# Altium footprint library LKAS_EPS.PcbLib: 16 footprints
Each footprint in its own frame and in the unit in brackets; x right, y up, seen from the top. Pads: shape width x height; smd on the part's side, far side on the other; paste and mask are expansions set on the pad; w line width, h text height; cw(c..) or ccw(c..) is an arc to the next point about the centre after c.
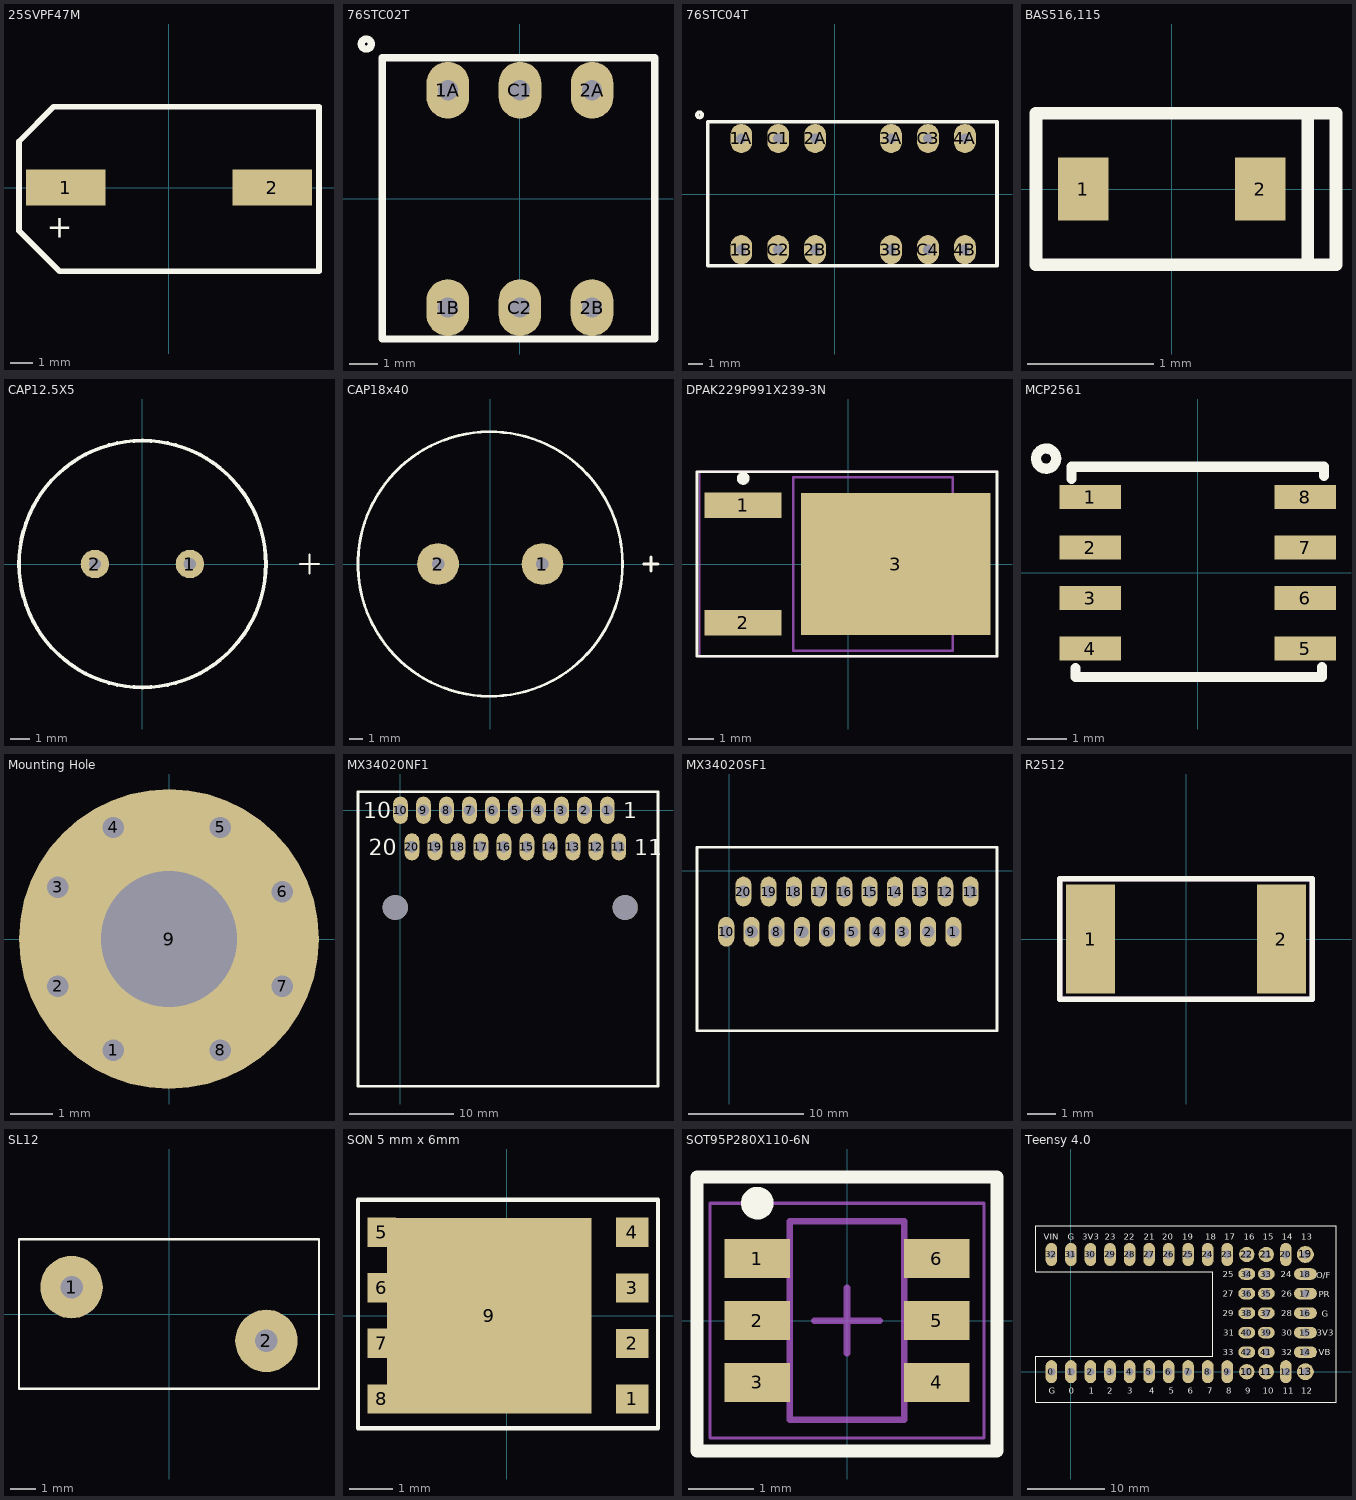
[diagram p0: the footprints below, top view; thin cyan lines are the x and y axes]

## 25SVPF47M [mm] "C6 LAND PATTERN"
pads (2):
  rect 3.5x1.6 smd: 1(-4.55,0) 2(4.55,0)
Top Overlay:
  lines w0.254: -6.604,-1.905 -6.604,2.032 -5.08,3.556 -3.683,3.556 3.683,3.556 6.604,3.556 6.604,-3.683 3.937,-3.683 -3.429,-3.683 -4.826,-3.683 -6.604,-1.905
  text "+" at -5.388,-2.213 h1
3D body "25SVPF47M.stp": height 6, standoff 0.1, extent -3.65,-3.3 3.65,3.3

## 76STC02T [mm] "Switch Rocker Arm"
pads (6):
  oval 1.5x2 hole 0.71: 1A(-2.538,3.827) 1B(-2.542,-3.827) 2A(2.542,3.827) 2B(2.538,-3.827) C1(0.002,3.827) C2(-0.002,-3.827)
Top Overlay:
  circle w0.254: c-5.412,5.451 r0.178
  lines w0.254: -4.846,-4.934 4.748,-4.934 4.748,4.966 -4.846,4.966 -4.846,-4.934

## 76STC04T [mm] "Switch Rocker Arm"
pads (12):
  oval 1.5x2 hole 0.71: 1A(-6.423,3.844) 1B(-6.426,-3.81) 2A(-1.343,3.844) 2B(-1.346,-3.81) 3A(3.883,3.844) 3B(3.88,-3.81) 4A(8.963,3.844) 4B(8.96,-3.81) C1(-3.883,3.844) C2(-3.886,-3.81) C3(6.423,3.844) C4(6.42,-3.81)
Top Overlay:
  circle w0.254: c-9.297,5.468 r0.178
  lines w0.254: -8.731,-4.917 -8.731,4.983 1.219,4.983 11.169,4.983 11.169,-4.917 -8.731,-4.917

## BAS516,115 [mm]
pads (2):
  rect 0.4x0.5 smd: 1(-0.7,0) 2(0.7,0)
Top Overlay:
  lines w0.1: -1.075,-0.6 1.075,-0.6 ; -1.075,-0.6 -1.075,0.6 1.075,0.6 ; -1.075,-0.6 1.075,-0.6 ; 1.075,-0.6 1.3,-0.6 1.3,0.6 1.075,0.6 ; 1.075,-0.6 1.075,0.6
3D body "SOD-523F.step": height 0.7, standoff 0, extent -0.8,-0.399 0.8,0.399

## CAP12.5X5 [mm]
pads (2):
  round 1.5 hole 0.65: 1(2.5,0) 2(-2.5,0)
Top Overlay:
  circle w0.2: c0,0 r6.5
  lines w0.1: 8.282,0 9.298,0 ; 8.79,-0.508 8.79,0.508
3D body: height 20, standoff 0, extent -6.25,-6.247 6.25,6.247

## CAP18x40 [mm]
pads (2):
  round 3 hole 0.9: 1(3.75,0) 2(-3.75,0)
Top Overlay:
  circle w0.2: c0,0 r9.5
  lines w0.2: 11.032,0 12.048,0 ; 11.54,-0.508 11.54,0.508
3D body: height 20, standoff 0, extent 0.212,-3.861 0.212,-3.861
3D body "CAP18x40.step": height 41.36, standoff -2.78, extent -9.14,-9.138 9.14,9.138

## DPAK229P991X239-3N [mm] "D-PAK, 3-Pads, Body 6.21x6.73mm (max), IPC Medium Density"
height 2.39
pads (3):
  rect 3x1 smd: 1(-4.1,2.29) 2(-4.1,-2.29)
  rect 7.4x5.55 smd: 3(1.85,0)
Top Overlay:
  circle w0.25: c-4.1,3.34 r0.125
  lines w0.1: -5.9,-3.6 -5.9,3.6 5.8,3.6 5.8,-3.6 -5.9,-3.6
Mechanical 15:
  lines w0.05: -5.8,-3.625 5.8,-3.625 5.8,3.625 -5.8,3.625 -5.8,-3.625
  lines w0.1: -0.5,0 0.5,0 ; 0,-0.5 0,0.5
Top Assembly:
  lines w0.1: -2.15,-3.375 4.07,-3.375 4.07,3.375 -2.15,3.375 -2.15,-3.375
3D body "DPAK229P991X239-3N.step": height 2.52, standoff 0, extent -4.39,-3.375 5.515,3.375

## MCP2561 [mm] "SOIC 8 SN type"
pads (8):
  rect 1.55x0.6 smd: 1(-2.7,1.905) 2(-2.7,0.635) 3(-2.7,-0.635) 4(-2.7,-1.905) 5(2.7,-1.905) 6(2.7,-0.635) 7(2.7,0.635) 8(2.7,1.905)
Top Overlay:
  circle w0.254: c-3.81,2.87 r0.254
  lines w0.254: -3.175,2.362 -3.175,2.667 3.175,2.667 3.175,2.438 ; -3.073,-2.388 -3.073,-2.616 3.124,-2.616 3.124,-2.362
3D body "User Library-SOIC-8-1.step": height 1.75, standoff 0, extent -3,-2.45 3,2.45

## Mounting Hole [mm]
pads (9):
  round 0.5 hole 0.5: 1(-1.3,-2.6) 2(-2.6,-1.1) 3(-2.6,1.204) 4(-1.3,2.602) 5(1.2,2.602) 6(2.646,1.1) 7(2.646,-1.1) 8(1.2,-2.6)
  round 7 hole 3.175: 9(0,0)
Top Layer:
  circle w0.254: c0,0 r2.865

## MX34020NF1 [mm] "Receptical with male pins"
pads (22):
  oval 1.4x2.6 hole 1.1: 1(19.8,0) 2(17.6,0) 3(15.4,0) 4(13.2,0) 5(11,0) 6(8.8,0) 7(6.6,0) 8(4.4,0) 9(2.2,0) 10(0,0) 11(20.9,-3.5) 12(18.7,-3.5) 13(16.5,-3.5) 14(14.3,-3.5) 15(12.1,-3.5) 16(9.9,-3.5) 17(7.7,-3.5) 18(5.5,-3.5) 19(3.3,-3.5) 20(1.1,-3.5)
  round 2.4 hole 2.4 unplated: ""(-0.5,-9.3) ""(21.5,-9.3)
Top Overlay:
  lines w0.254: -4.064,-26.416 -4.064,1.778 24.638,1.778 24.638,-26.416 -4.064,-26.416
  text "10" at -3.556,-0.762 h1.52
  text "20" at -3.048,-4.318 h1.52
  text "11" at 22.352,-4.318 h1.52
  text "1" at 21.336,-0.762 h1.52
3D body "K3D-MX34020NF1-V3_JAE_Proprietary.STEP": height 16, standoff -3.2, extent -3.556,-26.214 24.344,0.306

## MX34020SF1 [mm] "Plug without pins"
pads (20):
  oval 1.4x2.6 hole 1.1: 1(19.558,-5.334) 2(17.358,-5.334) 3(15.158,-5.334) 4(12.958,-5.334) 5(10.758,-5.334) 6(8.558,-5.334) 7(6.358,-5.334) 8(4.158,-5.334) 9(1.958,-5.334) 10(-0.242,-5.334) 11(21.058,-1.834) 12(18.858,-1.834) 13(16.658,-1.834) 14(14.458,-1.834) 15(12.258,-1.834) 16(10.058,-1.834) 17(7.858,-1.834) 18(5.658,-1.834) 19(3.458,-1.834) 20(1.258,-1.834)
Top Overlay:
  lines w0.254: -2.794,-13.97 -2.794,2.032 23.368,2.032 23.368,-13.97 -2.794,-13.97
Bottom Overlay:
  text "10" at -4.064,-4.572 h1.52
  text "20" at -3.048,-1.016 h1.52
  text "11" at 22.098,-1.016 h1.52
  text "1" at 21.336,-4.572 h1.52
3D body "K3D-MX34020SF1-V3_JAE_Proprietary.STEP": height 21, standoff -0.3, extent -2.39,-13.746 22.71,1.454

## R2512 [mm]
pads (2):
  rect 1.7x3.8 smd: 1(-3.325,0) 2(3.325,0)
Top Overlay:
  lines w0.2: -4.4,-2.1 4.4,-2.1 4.4,2.1 -4.4,2.1 -4.4,-2.1
Top Assembly:
  lines w0.2: -4.4,-2.1 -4.4,2.1 4.4,2.1 4.4,-2.1 -4.4,-2.1
  text "'.Designator'" at -1.8,-0.35 h1.5
3D body "Resistor 2512.step": height 0.6, standoff 0, extent -3.4,-1.6 3.4,1.5

## SL12 [mm]
pads (2):
  round 2.5 hole 0.9: 1(-3.9,1.075) 2(3.9,-1.075)
Top Overlay:
  lines w0.1: -6,-3 6,-3 6,3 -6,3 -6,-3

## SON 5 mm x 6mm [mm] "NEXTFET"
pads (9):
  rect 0.75x0.675 smd: 1(2.883,-1.918) 2(2.883,-0.639) 3(2.883,0.639) 4(2.883,1.917)
  rect 0.655x0.675 smd: 5(-2.883,1.918) 6(-2.883,0.639) 7(-2.883,-0.639) 8(-2.883,-1.917)
  rect 4.7x4.5 smd: 9(-0.406,0)
Top Overlay:
  lines w0.1: -3.429,-2.591 -2.946,-2.591 3.48,-2.591 3.48,2.667 -3.429,2.667 -3.429,-2.591
3D body "SON8-5x6mm.step": height 1, standoff -0.05, extent -2.901,-2.5 3.099,2.5

## SOT95P280X110-6N [mm] "SOT23, 6-Leads, Body 2.90x2.80mm, Pitch 0.95mm, IPC Medium Density"
height 1.1
pads (6):
  rect 1x0.6 smd: 1(-1.375,0.95) 2(-1.375,0) 3(-1.375,-0.95) 4(1.375,-0.95) 5(1.375,0) 6(1.375,0.95)
Top Overlay:
  circle w0.25: c-1.375,1.8 r0.125
  lines w0.2: -2.3,-2 -2.3,2.2 2.3,2.2 2.3,-2 -2.3,-2
Mechanical 15:
  lines w0.05: -2.1,-1.8 2.1,-1.8 2.1,1.8 -2.1,1.8 -2.1,-1.8
  lines w0.1: -0.5,0 0.5,0 ; 0,-0.5 0,0.5
Top Assembly:
  lines w0.1: -0.875,-1.525 0.875,-1.525 0.875,1.525 -0.875,1.525 -0.875,-1.525
3D body "SOT95P280X110-6N.step": height 1.1, standoff 0.01, extent -1.493,-1.525 1.493,1.525

## Teensy 4.0 [mm]
pads (43):
  oval 1.5x3 hole 1.02: 0(-2.54,0) 1(0,0) 2(2.54,0) 3(5.08,0) 4(7.62,0) 5(10.16,0) 6(12.7,0) 7(15.24,0) 8(17.78,0) 9(20.32,0) 12(27.94,0) 20(27.94,15.24) 23(20.32,15.24) 24(17.78,15.24) 25(15.24,15.24) 26(12.7,15.24) 27(10.16,15.24) 28(7.62,15.24) 29(5.08,15.24) 30(2.54,15.24) 31(0,15.24) 32(-2.54,15.24)
  round 2 hole 1.02: 10(22.86,0) 11(25.4,0) 21(25.4,15.24) 22(22.86,15.24)
  round 2.2 hole 1.02: 13(30.48,0) 19(30.48,15.24)
  oval 3x1.5 hole 1.02: 14(30.48,2.54) 15(30.48,5.08) 16(30.48,7.62) 17(30.48,10.16) 18(30.48,12.7)
  oval 2.2x1.5 hole 1.02: 33(25.4,12.7) 34(22.86,12.7) 35(25.4,10.16) 36(22.86,10.16) 37(25.4,7.62) 38(22.86,7.62) 39(25.4,5.08) 40(22.86,5.08) 41(25.4,2.54) 42(22.86,2.54)
Top Overlay:
  lines w0.1: -4.54,-4 34.46,-4 34.46,19 -4.54,19 -4.54,13 18.46,13 18.46,2 -4.54,2 -4.54,-4
  text "33" at 19.728,2.14 h0.8
  text "32" at 27.348,2.14 h0.8
  text "31" at 19.823,4.68 h0.8
  text "30" at 27.348,4.68 h0.8
  text "29" at 19.728,7.22 h0.8
  text "28" at 27.348,7.22 h0.8
  text "27" at 19.728,9.76 h0.8
  text "26" at 27.348,9.76 h0.8
  text "25" at 19.728,12.3 h0.8
  text "24" at 27.31,12.3 h0.8
  text "O/F" at 31.867,12.15 h0.8
  text "PR" at 32.24,9.65 h0.8
  text "G" at 32.617,7.15 h0.8
  text "3V3" at 31.974,4.65 h0.8
  text "VB" at 32.242,2.15 h0.8
  text "G" at -2.883,-2.85 h0.8
  text "0" at -0.307,-2.85 h0.8
  text "1" at 2.289,-2.85 h0.8
  text "2" at 4.693,-2.85 h0.8
  text "3" at 7.353,-2.85 h0.8
  text "4" at 10.155,-2.85 h0.8
  text "5" at 12.693,-2.85 h0.8
  text "6" at 15.193,-2.85 h0.8
  text "7" at 17.693,-2.85 h0.8
  text "8" at 20.193,-2.85 h0.8
  text "9" at 22.693,-2.85 h0.8
  text "10" at 24.953,-2.85 h0.8
  text "11" at 27.549,-2.85 h0.8
  text "12" at 29.953,-2.85 h0.8
  text "13" at 29.953,17.15 h0.8
  text "14" at 27.415,17.15 h0.8
  text "15" at 24.953,17.15 h0.8
  text "16" at 22.453,17.15 h0.8
  text "17" at 19.953,17.15 h0.8
  text "18" at 17.453,17.15 h0.8
  text "19" at 14.453,17.15 h0.8
  text "20" at 11.868,17.15 h0.8
  text "21" at 9.463,17.15 h0.8
  text "22" at 6.868,17.15 h0.8
  text "23" at 4.368,17.15 h0.8
  text "3V3" at 1.474,17.15 h0.8
  text "G" at -0.383,17.15 h0.8
  text "VIN" at -3.502,17.15 h0.8
3D body "Teensy_4.0_COL.stp": height 10.13, standoff 6, extent -5,-1.23 31.75,16.47
3D body "5 POS SSA-105-S-T.stp": height 6, standoff -3.68, extent 21.59,1.27 24.13,13.97
3D body "5 POS SSA-105-S-T.stp": height 6, standoff -3.68, extent 24.13,1.27 26.67,13.97
3D body "5 POS SSA-105-S-T.stp": height 6, standoff -3.68, extent 29.21,1.27 31.75,13.97
3D body "14 POS SSA-114-S-T.stp": height 6, standoff -3.68, extent -3.81,-1.27 31.75,1.27
3D body "14 POS SSA-114-S-T.stp": height 6, standoff -3.68, extent -3.81,13.97 31.75,16.51